# EAGLE library part AWHW20 (library J-IDC2.54mm)
20POS 2.52MM pitch Boxheader for IDC socktest http://assmann.us/
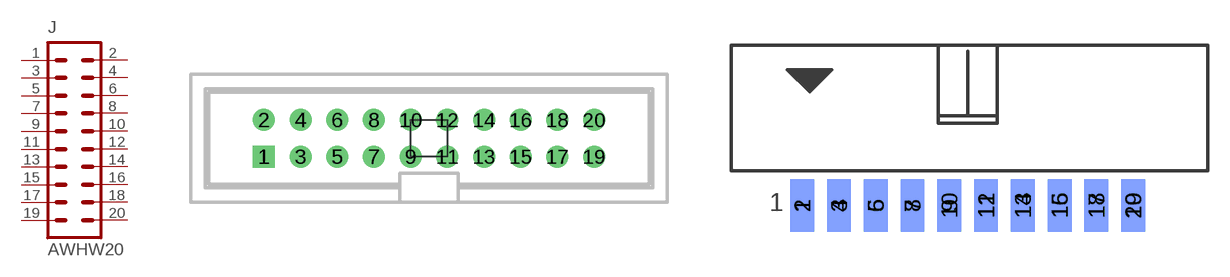
[diagram p0: symbol with the pads of 20G-0202-T-R; footprints 20G-0202-T-R, 20_STRADDLE]

Designator prefix J

## AWHW20G-0202-T-R  [20G-0202-T-R]
1  1  pas
2  2  pas
3  3  pas
4  4  pas
5  5  pas
6  6  pas
7  7  pas
8  8  pas
9  9  pas
10  10  pas
11  11  pas
12  12  pas
13  13  pas
14  14  pas
15  15  pas
16  16  pas
17  17  pas
18  18  pas
19  19  pas
20  20  pas

## AWHW20STRADDLE  [20_STRADDLE]
Pads as for 20G-0202-T-R

## AWHW20A-0202-T-R  [20A-0202-T-R]
Pads as for 20G-0202-T-R

## AWHW20-G-SMD-R  [20-G-SMD-R]
Pads as for 20G-0202-T-R

## Footprint 20G-0202-T-R (pad centres in mm)
2.54MM Pitch, 1.016MM drill, diameter is auto (uses DRC restring) AWHW20G-0202-T-R
drill 1.016 square: 1 -11.43,-1.27
drill 1.016: 2 -11.43,1.27; 3 -8.89,-1.27; 4 -8.89,1.27; 5 -6.35,-1.27; 6 -6.35,1.27; 7 -3.81,-1.27; 8 -3.81,1.27; 9 -1.27,-1.27; 10 -1.27,1.27; 11 1.27,-1.27; 12 1.27,1.27; 13 3.81,-1.27; 14 3.81,1.27; 15 6.35,-1.27; 16 6.35,1.27; 17 8.89,-1.27; 18 8.89,1.27; 19 11.43,-1.27; 20 11.43,1.27

## Footprint 20_STRADDLE (pad centres in mm)
straddle pcb
smd 1.651 x 3.607: 1 -11.43,-3.404; 3 -8.89,-3.404; 5 -6.35,-3.404; 7 -3.81,-3.404; 9 -1.27,-3.404; 11 1.27,-3.404; 13 3.81,-3.404; 15 6.35,-3.404; 17 8.89,-3.404; 19 11.43,-3.404
smd 1.651 x 3.607 bottom: 2 -11.43,-3.404; 4 -8.89,-3.404; 6 -6.35,-3.404; 8 -3.81,-3.404; 10 -1.27,-3.404; 12 1.27,-3.404; 14 3.81,-3.404; 16 6.35,-3.404; 18 8.89,-3.404; 20 11.43,-3.404

## Footprint 20A-0202-T-R (pad centres in mm)
2.54MM Pitch, 1.016MM drill, diameter is auto (uses DRC restring) AWHW20A-0202-T-R
drill 1.016 square: 1 -11.43,-1.27
drill 1.016: 2 -11.43,1.27; 3 -8.89,-1.27; 4 -8.89,1.27; 5 -6.35,-1.27; 6 -6.35,1.27; 7 -3.81,-1.27; 8 -3.81,1.27; 9 -1.27,-1.27; 10 -1.27,1.27; 11 1.27,-1.27; 12 1.27,1.27; 13 3.81,-1.27; 14 3.81,1.27; 15 6.35,-1.27; 16 6.35,1.27; 17 8.89,-1.27; 18 8.89,1.27; 19 11.43,-1.27; 20 11.43,1.27

## Footprint 20-G-SMD-R (pad centres in mm)
2.54MM Pitch, 3.9MM X1.02MM PAD 50% round, +/- 2.94MM offset AWHW20-G-SMD-R
smd 1.02 x 3.9: 1 -11.43,-2.94; 2 -11.43,2.94; 3 -8.89,-2.94; 4 -8.89,2.94; 5 -6.35,-2.94; 6 -6.35,2.94; 7 -3.81,-2.94; 8 -3.81,2.94; 9 -1.27,-2.94; 10 -1.27,2.94; 11 1.27,-2.94; 12 1.27,2.94; 13 3.81,-2.94; 14 3.81,2.94; 15 6.35,-2.94; 16 6.35,2.94; 17 8.89,-2.94; 18 8.89,2.94; 19 11.43,-2.94; 20 11.43,2.94